# Altium footprint library SMD Specific Components.PcbLib: 11 footprints
Each footprint in its own frame and in the unit in brackets; x right, y up, seen from the top. Pads: shape width x height; smd on the part's side, far side on the other; paste and mask are expansions set on the pad; w line width, h text height; cw(c..) or ccw(c..) is an arc to the next point about the centre after c.
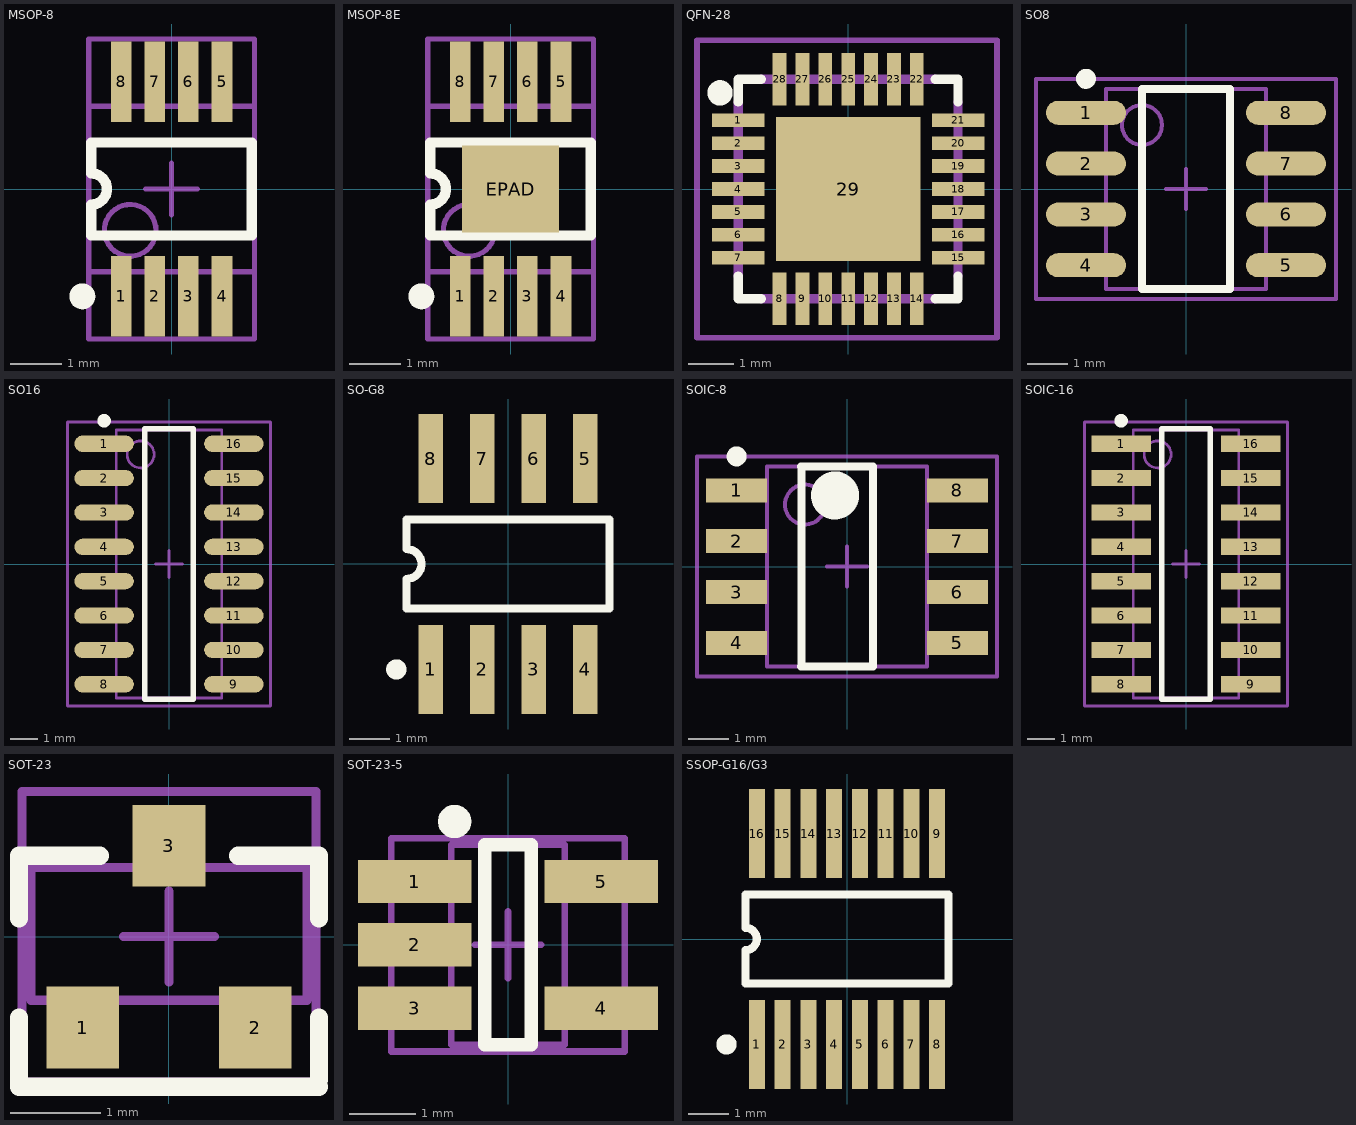
[diagram p0: the footprints below, top view; thin cyan lines are the x and y axes]

## MSOP-8 [mm] "Mini Small Outline, MSOP-8 Leads; Body Width 3 mm; Pitch 0.65 mm"
height 1.1
pads (8):
  rect 0.4x1.55 smd: 1(-0.975,-2.075) 2(-0.325,-2.075) 3(0.325,-2.075) 4(0.975,-2.075) 5(0.975,2.075) 6(0.325,2.075) 7(-0.325,2.075) 8(-0.975,2.075)
Top Overlay:
  circle w0.25: c-1.725,-2.075 r0.125
  lines w0.2: -1.55,-0.9 -1.55,-0.3 ccw(c-1.55,0) -1.55,0.3 -1.55,0.9 1.55,0.9 1.55,-0.9 -1.55,-0.9
Mechanical 13:
  circle w0.1: c-0.8,-0.8 r0.5
  lines w0.1: -1.6,-1.6 -1.6,1.6 1.6,1.6 1.6,-1.6 -1.6,-1.6
Mechanical 15:
  lines w0.1: -0.5,0 0.5,0 ; 0,-0.5 0,0.5 ; -1.6,-2.9 1.6,-2.9 1.6,2.9 -1.6,2.9 -1.6,-2.9
3D body "MSOP-8.STEP": height 1.1, standoff 0, extent -1.5,-2.46 1.5,2.461
3D body "MSOP-8.STEP": height 1.1, standoff 0, extent -1.5,-2.46 1.5,2.461

## MSOP-8E [mm] "Mini Small Outline, MSOP-8 Leads; Body Width 3 mm; Pitch 0.65 mm"
height 1.1
pads (9):
  rect 0.4x1.55 smd: 1(-0.975,-2.075) 2(-0.325,-2.075) 3(0.325,-2.075) 4(0.975,-2.075) 5(0.975,2.075) 6(0.325,2.075) 7(-0.325,2.075) 8(-0.975,2.075)
  rect 1.88x1.676 smd: EPAD(0,0)
Top Overlay:
  circle w0.25: c-1.725,-2.075 r0.125
  lines w0.2: -1.55,-0.9 1.55,-0.9 1.55,0.9 -1.55,0.9 -1.55,0.3 cw(c-1.55,0) -1.55,-0.3 -1.55,-0.9
Mechanical 13:
  circle w0.1: c-0.8,-0.8 r0.5
  lines w0.1: -1.6,-1.6 1.6,-1.6 1.6,1.6 -1.6,1.6 -1.6,-1.6
Mechanical 15:
  lines w0.1: -0.5,0 0.5,0 ; 0,-0.5 0,0.5 ; -1.6,-2.9 -1.6,2.9 1.6,2.9 1.6,-2.9 -1.6,-2.9
3D body "MSOP-8.STEP": height 1.1, standoff 0, extent -1.5,-2.46 1.5,2.461
3D body "MSOP-8.STEP": height 1.1, standoff 0, extent -1.5,-2.46 1.5,2.461
3D body "MSOP-8.STEP": height 1.1, standoff 0, extent -1.5,-2.46 1.5,2.461

## QFN-28 [mm]
pads (29):
  rect 1.15x0.3 smd: 1(-2.4,1.5) 2(-2.4,1) 3(-2.4,0.5) 4(-2.4,0) 5(-2.4,-0.5) 6(-2.4,-1) 7(-2.4,-1.5) 15(2.4,-1.5) 16(2.4,-1) 17(2.4,-0.5) 18(2.4,0) 19(2.4,0.5) 20(2.4,1) 21(2.4,1.5)
  rect 0.3x1.15 smd: 8(-1.5,-2.4) 9(-1,-2.4) 10(-0.5,-2.4) 11(0,-2.4) 12(0.5,-2.4) 13(1,-2.4) 14(1.5,-2.4) 22(1.5,2.4) 23(1,2.4) 24(0.5,2.4) 25(0,2.4) 26(-0.5,2.4) 27(-1,2.4) 28(-1.5,2.4)
  rect 3.15x3.15 smd: 29(0,0)
Top Overlay:
  circle w0.3: c-2.8,2.1 r0.127
  lines w0.203: -2.398,-1.902 -2.398,-2.398 -1.902,-2.398 ; -2.398,1.902 -2.398,2.398 -1.902,2.398 ; 1.902,-2.398 2.398,-2.398 2.398,-1.902 ; 1.902,2.398 2.398,2.398 2.398,1.902
Top Paste:
  region: -1.003,1 1,1 1,-1.003 -1.003,-1.003
Top Solder:
  region: -1.7,1.775 -1.7,3.03 -1.305,3.03 -1.305,1.775
  region: -1.199,1.776 -1.199,3.029 -0.804,3.029 -0.804,1.776
  region: -0.699,1.776 -0.699,3.029 -0.304,3.029 -0.304,1.776
  region: -0.2,1.775 -0.2,3.026 0.199,3.026 0.199,1.775
  region: 0.304,1.779 0.304,3.029 0.696,3.029 0.696,1.779
  region: 0.802,1.777 0.802,3.026 1.199,3.026 1.199,1.777
  region: 1.301,1.776 1.301,3.026 1.699,3.026 1.699,1.776
  region: 3.025,-1.702 1.777,-1.702 1.777,-1.3 3.025,-1.3
  region: 3.025,-1.201 1.776,-1.201 1.776,-0.8 3.025,-0.8
  region: 3.025,-0.702 1.781,-0.702 1.781,-0.3 3.025,-0.3
  region: 3.025,-0.2 1.779,-0.2 1.779,0.2 3.025,0.2
  region: 3.025,0.301 1.779,0.301 1.779,0.7 3.025,0.7
  region: 3.025,0.801 1.778,0.801 1.778,1.2 3.025,1.2
  region: 3.025,1.303 1.778,1.303 1.778,1.7 3.025,1.7
  region: -1.703,-3.028 -1.703,-1.775 -1.3,-1.775 -1.3,-3.028
  region: -1.204,-3.029 -1.204,-1.776 -0.799,-1.776 -0.799,-3.029
  region: -0.706,-3.031 -0.706,-1.777 -0.298,-1.777 -0.298,-3.031
  region: -0.203,-3.028 -0.203,-1.777 0.202,-1.777 0.202,-3.028
  region: 0.297,-3.028 0.297,-1.778 0.703,-1.778 0.703,-3.028
  region: 0.798,-3.027 0.798,-1.778 1.203,-1.778 1.203,-3.027
  region: 1.297,-3.028 1.297,-1.78 1.705,-1.78 1.705,-3.028
  region: -3.026,1.7 -1.775,1.7 -1.775,1.3 -3.026,1.3
  region: -3.031,1.2 -1.775,1.2 -1.775,0.802 -3.031,0.802
  region: -3.031,0.7 -1.775,0.7 -1.775,0.301 -3.031,0.301
  region: -3.027,0.2 -1.775,0.2 -1.775,-0.2 -3.027,-0.2
  region: -3.034,-0.3 -1.775,-0.3 -1.775,-0.702 -3.034,-0.702
  region: -3.029,-0.8 -1.775,-0.8 -1.775,-1.202 -3.029,-1.202
  region: -3.03,-1.3 -1.775,-1.3 -1.775,-1.703 -3.03,-1.703
Mechanical 1:
  lines w0.203: -2.4,-1.9 -2.4,1.9 ; -1.9,-2.4 1.9,-2.4 ; -1.9,2.4 1.9,2.4 ; 2.4,-1.9 2.4,1.9
Mechanical 15:
  lines w0.127: -3.302,-3.25 -3.302,3.25 3.25,3.25 3.25,-3.25 -3.302,-3.25
3D body "QFN-28.step": height 0.9, standoff 0, extent -2.52,-2.52 2.52,2.52

## SO8 [mm] "SO8/SOT96-1, 8-Pin Plastic Small Outline Integrated Circuit 1.27 mm Pitch, IPC Medium Density"
height 1.75
pads (8):
  oval 2x0.6 smd: 1(-2.5,1.905) 2(-2.5,0.635) 3(-2.5,-0.635) 4(-2.5,-1.905) 5(2.5,-1.905) 6(2.5,-0.635) 7(2.5,0.635) 8(2.5,1.905)
Top Overlay:
  circle w0.25: c-2.5,2.755 r0.125
  lines w0.2: -1.1,-2.5 -1.1,2.5 1.1,2.5 1.1,-2.5 -1.1,-2.5
Mechanical 13:
  circle w0.1: c-1.1,1.6 r0.5
  lines w0.1: -2,-2.5 -2,2.5 2,2.5 2,-2.5 -2,-2.5
Mechanical 15:
  lines w0.1: -0.5,0 0.5,0 ; 0,-0.5 0,0.5 ; -3.75,-2.75 -3.75,2.75 3.75,2.75 3.75,-2.75 -3.75,-2.75
3D body "SO8.STEP": height 1.7, standoff 0, extent -3,-2.45 3,2.45

## SO16 [mm] "16-Pin Small Outline Integrated Circuit 1.27 mm Pitch, IPC Medium Density"
height 1.75
pads (16):
  oval 2.2x0.6 smd: 1(-2.4,4.445) 2(-2.4,3.175) 3(-2.4,1.905) 4(-2.4,0.635) 5(-2.4,-0.635) 6(-2.4,-1.905) 7(-2.4,-3.175) 8(-2.4,-4.445) 9(2.4,-4.445) 10(2.4,-3.175) 11(2.4,-1.905) 12(2.4,-0.635) 13(2.4,0.635) 14(2.4,1.905) 15(2.4,3.175) 16(2.4,4.445)
Top Overlay:
  circle w0.25: c-2.4,5.295 r0.125
  lines w0.2: -0.9,-5 -0.9,5 0.9,5 0.9,-5 -0.9,-5
Mechanical 13:
  circle w0.1: c-1.05,4.05 r0.5
  lines w0.1: -1.95,-4.95 -1.95,4.95 1.95,4.95 1.95,-4.95 -1.95,-4.95
Mechanical 15:
  lines w0.1: -0.5,0 0.5,0 ; 0,-0.5 0,0.5 ; -3.75,-5.25 -3.75,5.25 3.75,5.25 3.75,-5.25 -3.75,-5.25
3D body "SOIC-16.step": height 1.7, standoff 0, extent -3,-5.1 3,5.1

## SO-G8 [mm]
pads (8):
  rect 0.6x2.2 smd: 1(-1.905,-2.6) 2(-0.635,-2.6) 3(0.635,-2.6) 4(1.905,-2.6) 5(1.905,2.6) 6(0.635,2.6) 7(-0.635,2.6) 8(-1.905,2.6)
Top Overlay:
  circle w0.25: c-2.755,-2.6 r0.125
  lines w0.2: -2.5,-1.1 -2.5,-0.367 ccw(c-2.5,0) -2.5,0.367 -2.5,1.1 2.5,1.1 2.5,-1.1 -2.5,-1.1
3D body "SO-8.STEP": height 1.5, standoff 0, extent -2.45,-3.014 2.45,3.014
3D body "SO8 or SOIC8.STEP": height 1.7, standoff 0, extent -2.45,-3 2.45,3

## SOIC-8 [mm] "SOIC, 8-Leads, Body 5,0x4,0mm (max), Pitch 1,27mm, IPC Medium Density"
height 1.75
pads (8):
  rect 1.52x0.6 smd: 1(-2.76,1.905) 2(-2.76,0.635) 3(-2.76,-0.635) 4(-2.76,-1.905) 5(2.76,-1.905) 6(2.76,-0.635) 7(2.76,0.635) 8(2.76,1.905)
Top Overlay:
  circle w0.6: c-0.3,1.778 r0.3
  circle w0.25: c-2.76,2.755 r0.125
  lines w0.2: -1.154,-2.5 0.646,-2.5 0.646,2.5 -1.154,2.5 ; -1.143,-2.5 -1.143,2.5
Mechanical 13:
  circle w0.1: c-1.05,1.55 r0.5
  lines w0.1: -2,-2.5 2,-2.5 2,2.5 -2,2.5 -2,-2.5
Mechanical 15:
  lines w0.1: -0.5,0 0.5,0 ; 0,-0.5 0,0.5 ; -3.75,-2.75 3.75,-2.75 3.75,2.75 -3.75,2.75 -3.75,-2.75
3D body "SO8.STEP": height 1.7, standoff 0, extent -3,-2.45 3,2.45

## SOIC-16 [mm] "SOIC, 16-Leads, Body 9.9x3.9mm, Pitch 1.27mm, IPC Medium Density"
height 1.75
pads (16):
  rect 2.2x0.6 smd: 1(-2.4,4.445) 2(-2.4,3.175) 3(-2.4,1.905) 4(-2.4,0.635) 5(-2.4,-0.635) 6(-2.4,-1.905) 7(-2.4,-3.175) 8(-2.4,-4.445) 9(2.4,-4.445) 10(2.4,-3.175) 11(2.4,-1.905) 12(2.4,-0.635) 13(2.4,0.635) 14(2.4,1.905) 15(2.4,3.175) 16(2.4,4.445)
Top Overlay:
  circle w0.25: c-2.4,5.295 r0.125
  lines w0.2: -0.9,-5 0.9,-5 0.9,5 -0.9,5 -0.9,-5
Mechanical 13:
  circle w0.1: c-1.05,4.05 r0.5
  lines w0.1: -1.95,-4.95 1.95,-4.95 1.95,4.95 -1.95,4.95 -1.95,-4.95
Mechanical 15:
  lines w0.1: -0.5,0 0.5,0 ; 0,-0.5 0,0.5 ; -3.75,-5.25 3.75,-5.25 3.75,5.25 -3.75,5.25 -3.75,-5.25
3D body "SOIC-16.step": height 1.7, standoff 0, extent -3,-5.1 3,5.1
3D body "SOIC-16 SO-16.step": height 1.7, standoff 0, extent -3,-5.1 3,5.1

## SOT-23 [mm] "SOT23, 3-Leads, Body 3,0x2,6mm (max), Pitch 0,95mm, IPC High Density"
height 1.12
pads (3):
  rect 0.8x0.9 smd: 1(-0.95,-1) 2(0.95,-1) 3(0,1)
Top Overlay:
  lines w0.2: -1.651,-1.651 -1.651,-0.889 ; -1.651,0.203 -1.651,0.889 ; 1.651,-1.575 1.651,-0.889
  lines w0.203: -1.651,-1.651 1.651,-1.651 ; -1.651,0.889 -0.762,0.889 ; 0.762,0.889 1.651,0.889 1.651,0.203
Mechanical 13:
  lines w0.1: -1.52,0.7 -1.52,-0.7 1.52,-0.7 1.52,0.7
  lines w0.102: -1.524,0.762 1.524,0.762
Mechanical 15:
  lines w0.1: -0.5,0 0.5,0 ; 0,-0.5 0,0.5 ; -1.62,-1.6 -1.62,1.6 1.62,1.6 1.62,-1.6 -1.62,-1.6
3D body "sot-23-3-nxp.STEP": height 1.42, standoff -0.08, extent -1.43,-1.16 1.47,1.16

## SOT-23-5 [mm] "SOT-23/MO-178, 5-Leads, Body 3,0x3,0mm (max), Pitch 0,95mm, IPC High Density"
height 1.4
pads (5):
  rect 1.7x0.65 smd: 1(-1.4,0.95) 2(-1.4,0) 3(-1.4,-0.95) 4(1.4,-0.95) 5(1.4,0.95)
Top Overlay:
  circle w0.25: c-0.8,1.85 r0.125
  lines w0.2: -0.35,-1.5 -0.35,1.5 0.35,1.5 0.35,-1.5 -0.35,-1.5
Mechanical 13:
  lines w0.1: -0.85,-1.5 0.85,-1.5 0.85,1.5 -0.85,1.5 -0.85,-1.5
Mechanical 15:
  lines w0.1: -0.5,0 0.5,0 ; 0,-0.5 0,0.5 ; -1.75,-1.6 1.75,-1.6 1.75,1.6 -1.75,1.6 -1.75,-1.6
3D body "sot-23-5-microchip.STEP": height 1.14, standoff -0.05, extent -1.36,-1.45 1.361,1.45
3D body "SOT-23-5.STEP": height 1.42, standoff -0.08, extent -1.41,-1.45 1.411,1.45

## SSOP-G16/G3 [mm]
pads (16):
  rect 0.4x2.2 smd: 1(-2.222,-2.6) 2(-1.587,-2.6) 3(-0.953,-2.6) 4(-0.318,-2.6) 5(0.318,-2.6) 6(0.953,-2.6) 7(1.587,-2.6) 8(2.222,-2.6) 9(2.222,2.6) 10(1.587,2.6) 11(0.953,2.6) 12(0.318,2.6) 13(-0.318,2.6) 14(-0.953,2.6) 15(-1.587,2.6) 16(-2.222,2.6)
Top Overlay:
  circle w0.25: c-2.973,-2.6 r0.125
  lines w0.2: -2.5,-1.1 2.5,-1.1 2.5,1.1 -2.5,1.1 -2.5,0.275 cw(c-2.5,0) -2.5,-0.275 -2.5,-1.1
3D body "SSOP-16 GN Package.step": height 1.64, standoff -0.1, extent -2.5,-3.126 2.5,3.127